# Altium footprint library SeniorProject.PcbLib: 33 footprints (part 2 of 3)
Each footprint in its own frame and in the unit in brackets; x right, y up, seen from the top. Pads: shape width x height; smd on the part's side, far side on the other; paste and mask are expansions set on the pad; w line width, h text height; cw(c..) or ccw(c..) is an arc to the next point about the centre after c.
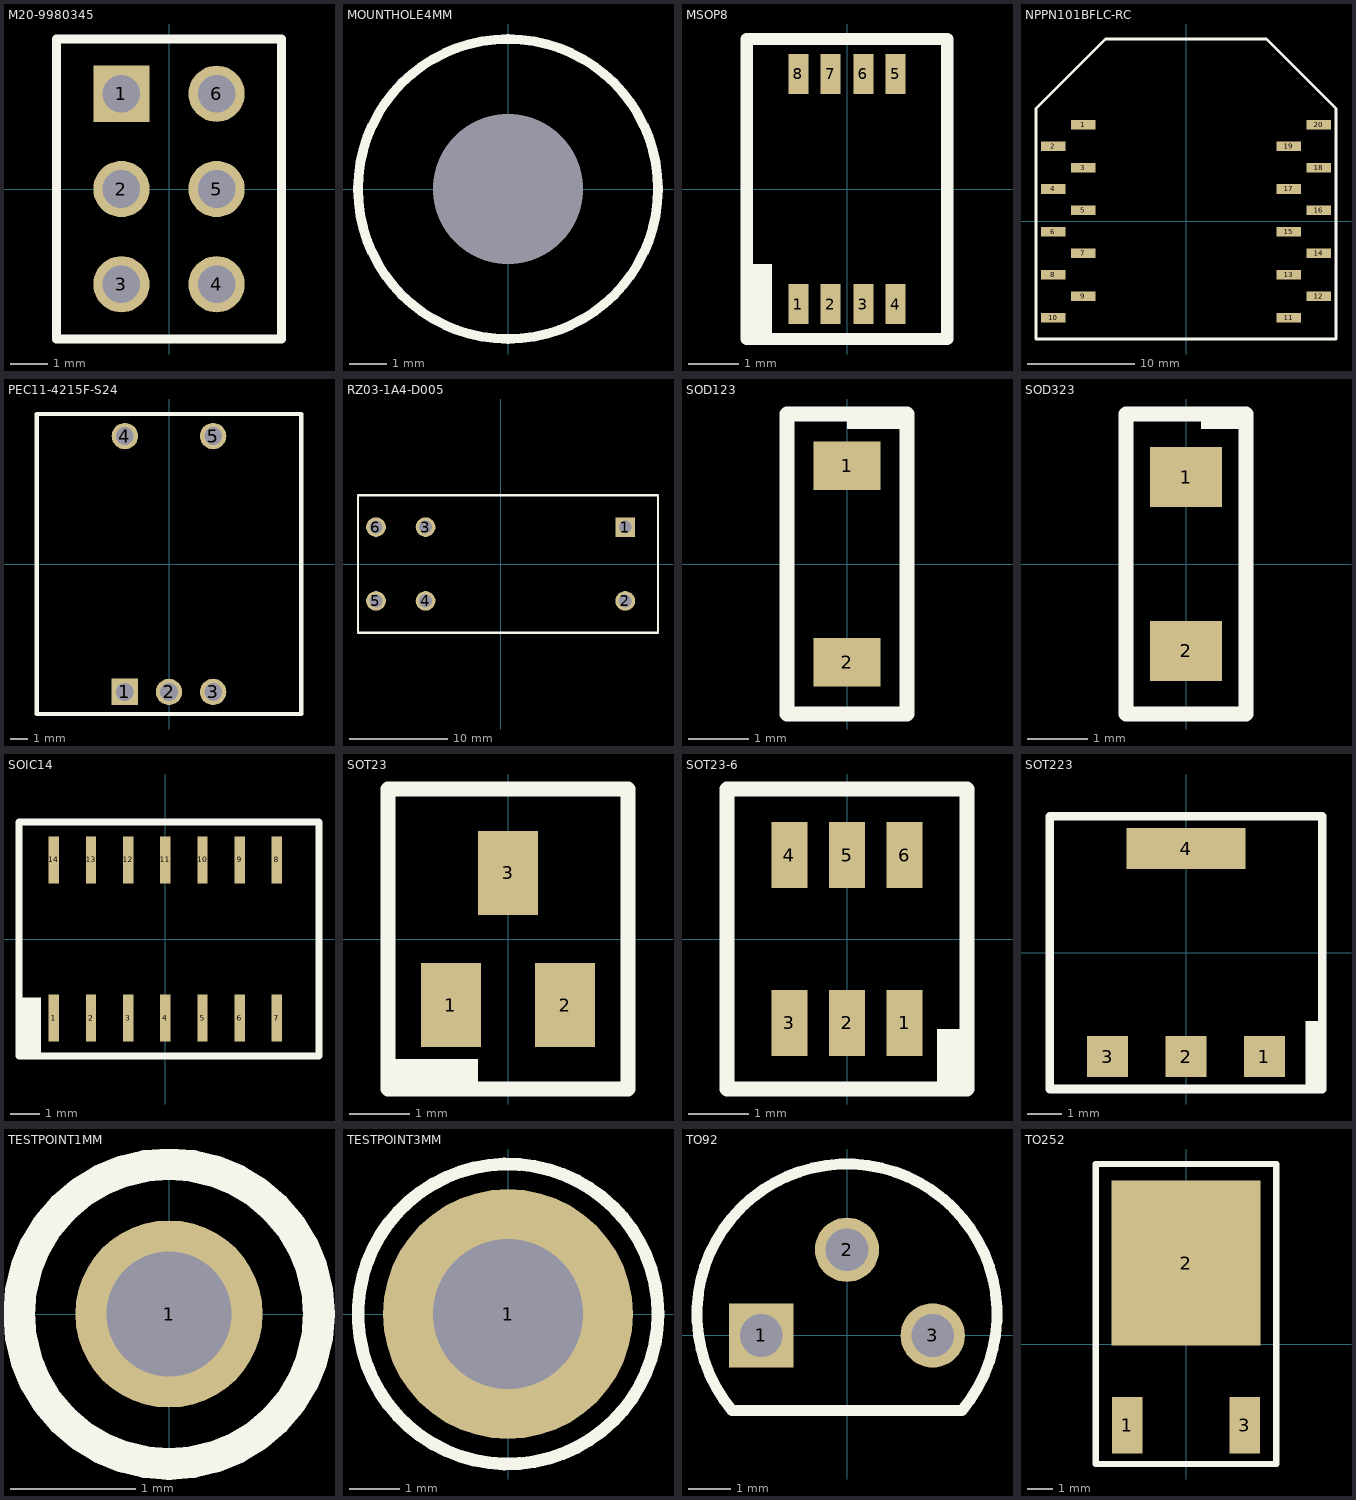
[diagram p1: the footprints below, top view; thin cyan lines are the x and y axes]

## M20-9980345 [mm]
pads (6):
  rect 1.5x1.5 hole 1: 1(-1.27,2.54)
  round 1.5 hole 1: 2(-1.27,0) 3(-1.27,-2.54) 4(1.27,-2.54) 5(1.27,0) 6(1.27,2.54)
Top Overlay:
  lines w0.25: -3,-4 -3,4 3,4 3,-4 -3,-4
3D body "m20-9980345_asm.stp": height 8.7, standoff -2.98, extent -2.54,-3.81 2.54,3.81

## MOUNTHOLE4MM [mm]
pads (1):
  round 0 hole 4 unplated: ""(0,0)
Top Overlay:
  circle w0.254: c0,0 r4

## MSOP8 [mm]
pads (8):
  rect 0.4x0.8 smd: 1(-0.975,-2.3) 2(-0.325,-2.3) 3(0.325,-2.3) 4(0.975,-2.3) 5(0.975,2.3) 6(0.325,2.3) 7(-0.325,2.3) 8(-0.975,2.3)
Top Overlay:
  rectangle: -2,-3 -1.5,-1.5
  lines w0.25: -2,-3 2,-3 2,3 -2,3 -2,-3
3D body "msop-8.SLDPRT": height 1.15, standoff 0, extent -1.5,-2.45 1.5,2.45

## NPPN101BFLC-RC [mm]
pads (20):
  rect 2.29x0.89 smd: 1(-9.605,9) 2(-12.395,7) 3(-9.605,5) 4(-12.395,3) 5(-9.605,1) 6(-12.395,-1) 7(-9.605,-3) 8(-12.395,-5) 9(-9.605,-7) 10(-12.395,-9) 11(9.605,-9) 12(12.395,-7) 13(9.605,-5) 14(12.395,-3) 15(9.605,-1) 16(12.395,1) 17(9.605,3) 18(12.395,5) 19(9.605,7) 20(12.395,9)
Top Overlay:
  lines w0.25: -14,-11 14,-11 14,10.5 7.5,17 4.7,17 -4.7,17 -7.5,17 -14,10.5 -14,-11
3D body "NPPN101BFLC-RC.STEP": height -0.44, standoff -5.04, extent 9.002,-10.25 12.998,10.25
3D body "NPPN101BFLC-RC.STEP": height -0.44, standoff -5.04, extent -12.998,-10.25 -9.002,10.25
3D body: height 3.5, standoff 0, extent -9.605,9 -9.605,9

## PEC11-4215F-S24 [mm]
pads (5):
  rect 1.5x1.5 hole 1: 1(-2.5,-7.25)
  round 1.5 hole 1: 2(0,-7.25) 3(2.5,-7.25) 4(-2.5,7.25) 5(2.5,7.25)
Top Overlay:
  lines w0.25: -7.5,-8.5 -7.5,8.5 7.5,8.5 7.5,-8.5 -7.5,-8.5
3D body "pec11r-4215k-n0024.stp": height 21.6, standoff -3.6, extent -7,-7.45 7,7.45

## RZ03-1A4-D005 [mm]
pads (6):
  rect 2x2 hole 1.3: 1(12.67,3.75)
  round 2 hole 1.3: 2(12.67,-3.75) 3(-7.63,3.75) 4(-7.63,-3.75) 5(-12.67,-3.75) 6(-12.67,3.75)
Top Overlay:
  lines w0.25: -14.5,-7 -14.5,7 16,7 16,-7 -14.5,-7
3D body "RZ03-1A4-D005.stp": height 15.7, standoff -3.5, extent -13.82,-6.35 15.18,6.35
3D body: height 3.5, standoff 0, extent 8.76,4.5 8.76,4.5
3D body: height 3.5, standoff 0, extent 12.67,3.75 12.67,3.75
3D body: height 3.5, standoff 0, extent 1.26,6.35 1.26,6.35

## SOD123 [mm]
pads (2):
  rect 1.12x0.81 smd: 1(0,1.635) 2(0,-1.635)
Top Overlay:
  rectangle: 0,2.25 1,2.5
  lines w0.25: -1,-2.5 1,-2.5 1,2.5 -1,2.5 -1,-2.5
3D body "SOD123.stp": height 1.35, standoff 0, extent -0.85,-1.925 0.85,1.925

## SOD323 [mm]
pads (2):
  rect 1.2x1 smd: 1(0,1.45) 2(0,-1.45)
Top Overlay:
  rectangle: 0.25,2.25 1,2.5
  lines w0.25: -1,-2.5 1,-2.5 1,2.5 -1,2.5 -1,-2.5
3D body "SOD323.stp": height -0.4, standoff -1.55, extent -0.725,-1.35 0.725,1.35

## SOIC14 [mm]
pads (14):
  rect 0.35x1.6 smd: 1(-3.81,-2.7) 2(-2.54,-2.7) 3(-1.27,-2.7) 4(0,-2.7) 5(1.27,-2.7) 6(2.54,-2.7) 7(3.81,-2.7) 8(3.81,2.7) 9(2.54,2.7) 10(1.27,2.7) 11(0,2.7) 12(-1.27,2.7) 13(-2.54,2.7) 14(-3.81,2.7)
Top Overlay:
  rectangle: -5,-4 -4.25,-2
  lines w0.25: -5,-4 -5,4 5.25,4 5.25,-4 -5,-4
3D body "SOIC14.stp": height 1.59, standoff -0.01, extent -4.318,-3.022 4.318,3.023

## SOT23 [mm]
pads (3):
  rect 1x1.4 smd: 1(-0.95,-1.1) 2(0.95,-1.1) 3(0,1.1)
Top Overlay:
  rectangle: -2,-2.5 -0.5,-2
  lines w0.25: -2,-2.5 2,-2.5 2,2.5 -2,2.5 -2,-2.5
3D body "SOT23.step": height 1.1, standoff 0, extent -1.5,-1.2 1.5,1.2

## SOT23-6 [mm]
pads (6):
  rect 0.6x1.1 smd: 1(0.96,-1.4) 2(0,-1.4) 3(-0.96,-1.4) 4(-0.96,1.4) 5(0,1.4) 6(0.96,1.4)
Top Overlay:
  rectangle: 1.5,-2.5 2,-1.5
  lines w0.25: -2,-2.5 -2,2.5 2,2.5 2,-2.5 -2,-2.5
3D body "SOT23-6.stp": height -0.42, standoff -1.6, extent -1.5,-1.418 1.5,1.418

## SOT223 [mm]
pads (4):
  rect 1.2x1.2 smd: 1(2.3,-3.05) 2(0,-3.05) 3(-2.3,-3.05)
  rect 3.5x1.2 smd: 4(0,3.05)
Top Overlay:
  rectangle: 3.5,-4 4,-2
  lines w0.25: -4,-4 -4,4 4,4 4,-4 -4,-4
3D body "SOT-223.STEP": height -0.4, standoff -2.1, extent -3.25,-3.445 3.25,3.445
3D body: height 0.25, standoff -7, extent -3.35,3.7 -3.35,3.7

## TESTPOINT1MM [mm]
pads (1):
  round 1.5 hole 1: 1(0,0)
Top Overlay:
  circle w0.254: c0,0 r1.2

## TESTPOINT3MM [mm]
pads (1):
  round 5 hole 3: 1(0,0)
Top Overlay:
  circle w0.254: c0,0 r3

## TO92 [mm]
pads (3):
  rect 1.5x1.5 hole 1: 1(-2,0)
  round 1.5 hole 1: 2(0,2) 3(2,0)
Top Overlay:
  lines w0.25: -2.681,-1.75 2.681,-1.75
  lines w0.254: -2.681,-1.75 cw(c0,0.5) 2.681,-1.75
3D body "TO-92.stp": height 6.18, standoff -3, extent -2.294,-0.64 2.278,2.92

## TO252 [mm]
pads (3):
  rect 1.2x2.2 smd: 1(-2.28,-3.15) 3(2.28,-3.15)
  rect 5.8x6.4 smd: 2(0,3.15)
Top Overlay:
  lines w0.25: -3.5,-4.65 -3.5,7 3.5,7 3.5,-4.65 -3.5,-4.65
3D body "TO252.step": height 2.3, standoff -0.05, extent -3.25,-3.5 3.25,5.2